# EAGLE library part GMSTBV6 (library CON_PHOENIX_508)
PHOENIX
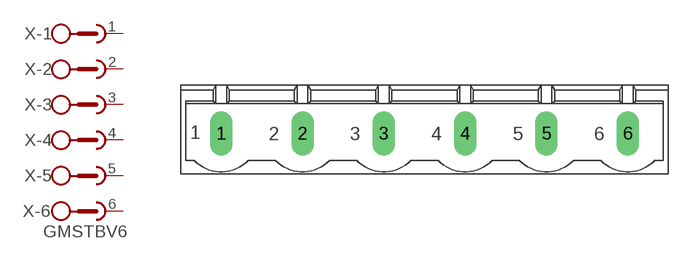
[diagram p6: symbol with the pads of GMSTBV6; footprint GMSTBV6]

Designator prefix X; gates -1=SKB -2=SKB -3=SKB -4=SKB -5=SKB -6=SKBV

## GMSTBV6  [GMSTBV6]
1  -1:1  pas
2  -2:1  pas
3  -3:1  pas
4  -4:1  pas
5  -5:1  pas
6  -6:1  pas

## Footprint GMSTBV6 (pad centres in mm)
PHOENIX
drill 1.397 long: 1 -19.05,0; 2 -11.43,0; 3 -3.81,0; 4 3.81,0; 5 11.43,0; 6 19.05,0